# Altium footprint library PCB - CONNECTOR - HARWIN - HARWIN M20-7820845.PcbLib: 1 footprints
Each footprint in its own frame and in the unit in brackets; x right, y up, seen from the top. Pads: shape width x height; smd on the part's side, far side on the other; paste and mask are expansions set on the pad; w line width, h text height; cw(c..) or ccw(c..) is an arc to the next point about the centre after c.
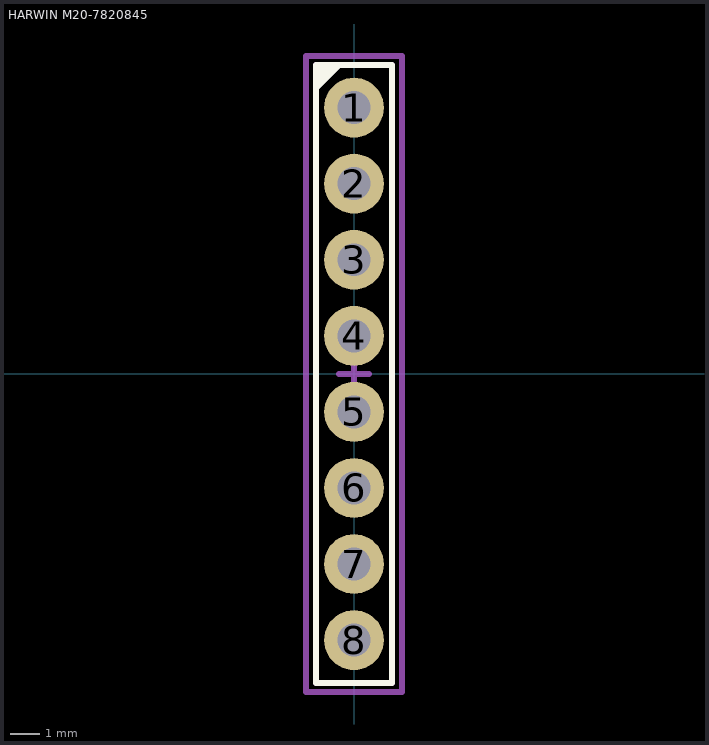
[diagram p0: the footprint, top view; thin cyan lines are the x and y axes]

## HARWIN M20-7820845 [mm] "2.54mm DIL PC TAIL PIN HEADER ASSEMBLY"
height 5
pads (8):
  round 2 hole 1.1: 1(0,8.89) 2(0,6.35) 3(0,3.81) 4(0,1.27) 5(0,-1.27) 6(0,-3.81) 7(0,-6.35) 8(0,-8.89)
Top Overlay:
  region: -1.23,10.35 -1.23,9.45 -0.33,10.35
  lines w0.2: -1.27,-10.33 1.27,-10.33 1.27,10.32 -1.27,10.32 -1.27,-10.33
Top Assembly:
  lines w0.2: -0.5,0 0.5,0 ; 0,-0.5 0,0.5 ; -1.27,-10.33 1.27,-10.33 1.27,10.32 -1.27,10.32 -1.27,-10.33
Top Courtyard (Mech15):
  lines w0.2: -1.6,-10.63 1.6,-10.63 1.6,10.62 -1.6,10.62 -1.6,-10.63
3D body "M20-7820842.step": height 8.5, standoff -3, extent -1.25,-10.36 1.25,10.36